# Altium schematic symbol library CFN0402-JX-R020ELF.SchLib: 1 symbol
Pins are listed as number, name and electrical type; pins without a type are passive.

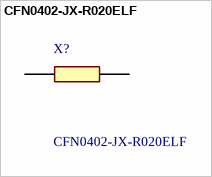
[diagram p0: symbol CFN0402-JX-R020ELF]

## CFN0402-JX-R020ELF
designator X?
CFN Series Metal Foil, Current Sense Resistor; Manufacturer_Name: Bourns; Geometry.Height: 0.55mm; Mouser Part Number: 652-CFN0402-JX-R020E; Mouser Price/Stock: https://www.mouser.co.uk/ProductDetail/Bourns/CFN0402-JX-R020ELF?qs=iLbezkQI%252Bsi0LPdSp%252B%2FClA%3D%3D; Manufacturer_Part_Number: CFN0402-JX-R020ELF; Datasheet Link: https://g.componentsearchengine.com/Datasheets/0/13902106.pdf
footprint RESC1105X55N
pins: 1, 2